# Altium schematic symbol library Schlib1.SchLib: 42 symbols (part 1 of 2)
Pins are listed as number, name and electrical type; pins without a type are passive.

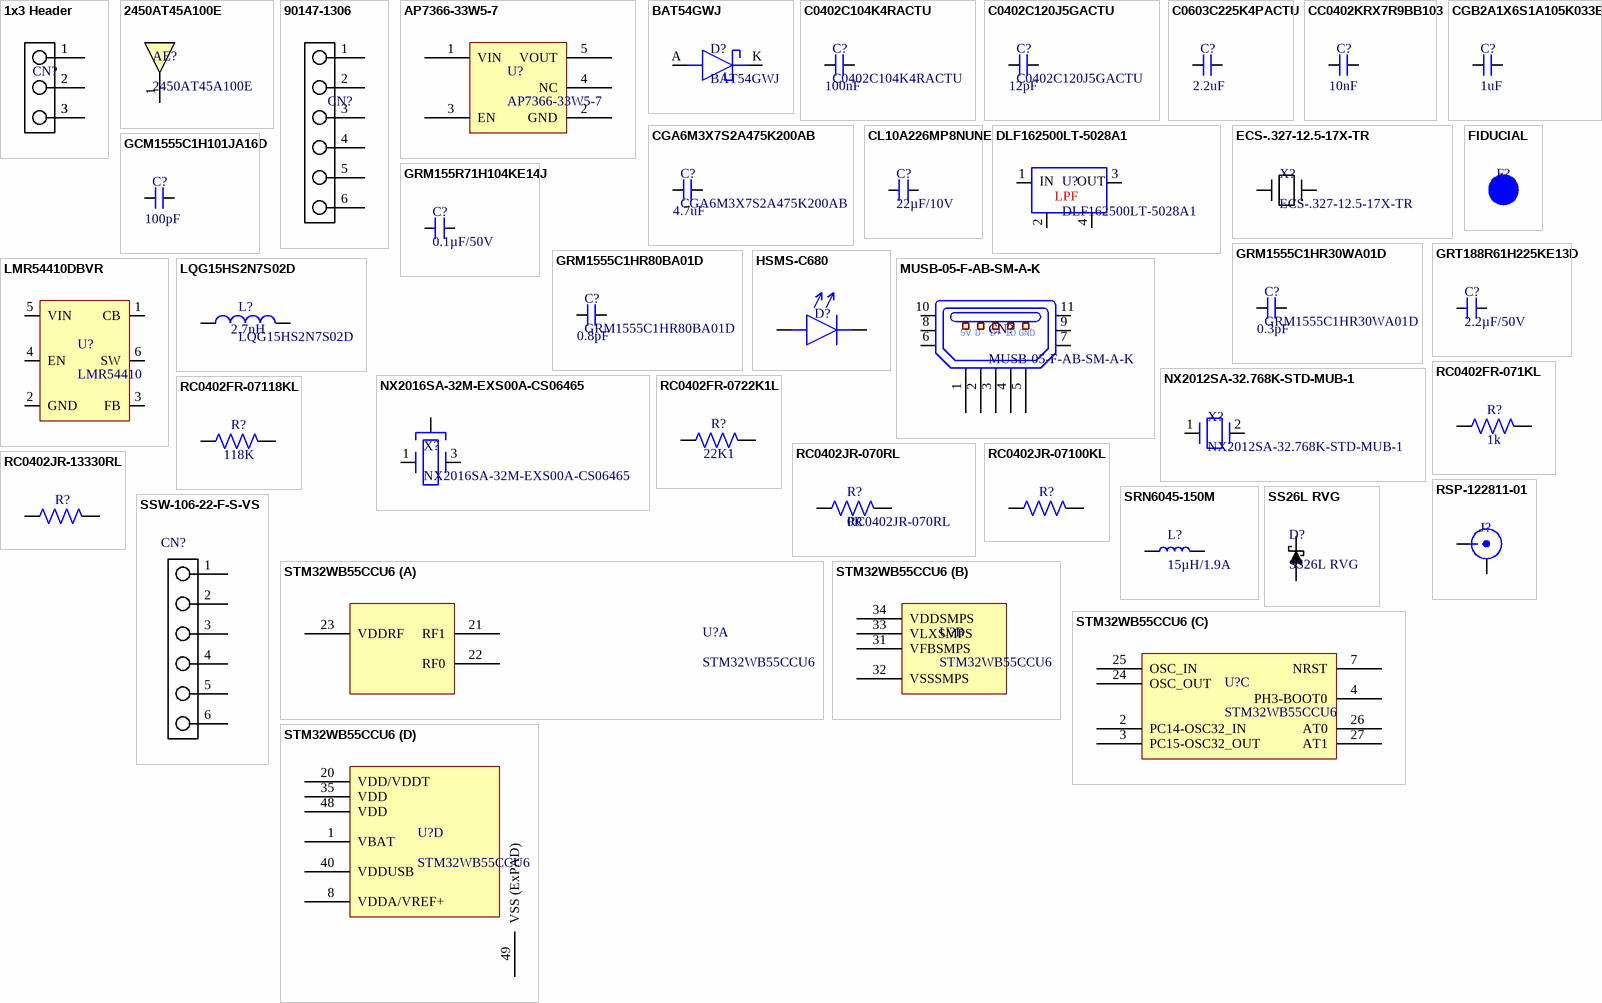
[diagram p0: symbols 1x3 Header to STM32WB55CCU6]

## 1x3 Header
designator CN?  (value not drawn)  (no BOM)
footprint 1x3Header
pins: 1, 1, 2, 2, 3, 3

## 2450AT45A100E
designator AE?
Antenna Ceramic 2.2dBi Gain 2500MHz 2-Pin T/R / ANTENNA CHIP 2.4GHZ; Manufacturer: Johanson; Impedance: 50R; Power Rating: 3W; Bandwidth: 100MHz; Number of Bands: 1; Return Loss: -9.5dB; Frequency: 2.45GHz; Gain: 1dB; Clock Frequency: 2.5GHz; Supplier: Newark; Supplier Part Number: 41T1678; Manufacturer Part Number: 2450AT45A100E; RoHS: Yes; Category: RF Antennas; Stock: 8; Pricing: 1=0,728, 10=0,62, 25=0,572, 50=0,523, 100=0,475 (USD); Mounting Technology: Surface Mount; Pins: 2; Min Operating Temperature: -40°C; Max Operating Temperature: 85°C; Package Quantity: 1000; Packaging: Tape and Reel; Max Power Dissipation: 3W; Termination: Solder; Series: -; Min Frequency: 2.4GHz; Input Impedance: 50R; Input Power: 3W; Length: 9.5mm; Width: 2mm; Height: 1.2mm; Radiation Hardening: No; Reach SVHC Compliant: No; RoHS Compliant: Yes; ComponentLink1URL: https://datasheet.ciiva.com/2791/jti-antenna-2450at45a100-2006-07-2791936.pdf?src-supplier=Digikey; ComponentLink1Description: https://datasheet.ciiva.com/2791/jti-antenna-2450at45a100-2006-07-2791936.pdf?src-supplier=Digikey; ComponentLink2URL: https://datasheet.ciiva.com/24068/antenna-2450at45a100-v5-242465-24068002.pdf?src-supplier=Mouser; ComponentLink2Description: https://datasheet.ciiva.com/24068/antenna-2450at45a100-v5-242465-24068002.pdf?src-supplier=Mouser; ComponentLink3URL: https://datasheet.ciiva.com/1126/1296113-1126176.pdf?src-supplier=Newark; ComponentLink3Description: https://datasheet.ciiva.com/1126/1296113-1126176.pdf?src-supplier=Newark; ComponentLink4URL: https://datasheet.ciiva.com/6748/antenna-2450at45a100-v5-6748578.pdf?src-supplier=Newark; ComponentLink4Description: https://datasheet.ciiva.com/6748/antenna-2450at45a100-v5-6748578.pdf?src-supplier=Newark; ComponentLink5URL: https://datasheet.ciiva.com/2791/jti-antenna-2450at45a100-2006-07-2791937.pdf?src-supplier=Digikey; ComponentLink5Description: https://datasheet.ciiva.com/2791/jti-antenna-2450at45a100-2006-07-2791937.pdf?src-supplier=Digikey; ComponentLink6URL: https://datasheet.ciiva.com/2791/jti-antenna-2450at45a100-2006-07-2791938.pdf?src-supplier=Digikey; ComponentLink6Description: https://datasheet.ciiva.com/2791/jti-antenna-2450at45a100-2006-07-2791938.pdf?src-supplier=Digikey; ComponentLink7URL: https://datasheet.ciiva.com/1124/1318299-1124920.pdf?src-supplier=Element14; ComponentLink7Description: https://datasheet.ciiva.com/1124/1318299-1124920.pdf?src-supplier=Element14
footprint 2450AT45A100E
pins: 1 Feeding Point

## 90147-1306
designator CN?  (value not drawn)
Header Connector, pcb Mount, plug, 6 Contacts, skt, 0.1 Pitch, pc Tail Terminal |Molex 90147-1306; Manufacturer: Molex; Plating: Tin; Current Rating: 3A; Voltage Rating: 350V; Number of Positions: 6; Number of Circuits: 5; Connector Type: Receptacle; Pitch: 2.54mm; Supplier: Digikey; Supplier Part Number: 0901471306-ND; Manufacturer Part Number: 90147-1306; RoHS: Yes; Category: Headers and Wire Housings; Pricing: 2880=1,37004 (USD); Contact Material: Bronze; Contact Plating: Gold; Housing Material: Polyester; Color: Black; Housing Color: Black; Min Operating Temperature: -55°C; Max Operating Temperature: 125°C; Packaging: Rail/Tube; Series: 90147; Package Quantity: 2880; Number of Rows: 1; Termination: Through Hole; Orientation: Vertical; Number of Contacts: 6; Length: 15.24mm; Depth: 2.54mm; RoHS Compliant: Yes; Reach SVHC Compliant: 4188SVHC; ComponentLink1URL: https://datasheet.ciiva.com/13558/0901471306-pcb-receptacles-176889-13558073.pdf?src-supplier=Mouser; ComponentLink1Description: https://datasheet.ciiva.com/13558/0901471306-pcb-receptacles-176889-13558073.pdf?src-supplier=Mouser; ComponentLink2URL: https://datasheet.ciiva.com/10085/0901471306-pcb-receptacles-10085019.pdf?src-supplier=Avnet; ComponentLink2Description: https://datasheet.ciiva.com/10085/0901471306-pcb-receptacles-10085019.pdf?src-supplier=Avnet
footprint 1x6Header
pins: 1, 2, 3, 4, 5, 6

## AP7366-33W5-7
designator U?
Ldo, Fixed, 3.3V, 0.6A, -40 To 85Deg C Rohs Compliant: Yes |Diodes Inc. AP7366-33W5-7; Manufacturer: Diodes; Number of Channels: 1NUMBER; Supplier: Future Electronics; Supplier Part Number: 8130059; Manufacturer Part Number: AP7366-33W5-7; RoHS: Yes; Stock: 9000; Pricing: 3000=0,0633, 9000=0,0609, 15000=0,0598, 30000=0,0584, 60000=0,0561 (USD); Output Voltage: 3.3V; ComponentLink1URL: https://datasheet.octopart.com/AP7366-33W5-7-Diodes-Inc.-datasheet-147761854.pdf?src-supplier=Farnell; ComponentLink1Description: https://datasheet.octopart.com/AP7366-33W5-7-Diodes-Inc.-datasheet-147761854.pdf?src-supplier=Farnell; ComponentLink2URL: https://www.diodes.com/assets/Datasheets/AP7366.pdf?src-supplier=Digikey; ComponentLink2Description: https://www.diodes.com/assets/Datasheets/AP7366.pdf?src-supplier=Digikey
footprint SOT25
pins: 1 VIN, 2 GND, 3 EN, 4 NC, 5 VOUT

## BAT54GWJ
designator D?
Schottky Diode, Sngl, 30V, 0.2A, Sod-123 Rohs Compliant: Yes |Nexperia BAT54GWJ; Supplier: Mouser; Supplier Part Number: 841-BAT54GWJ; Manufacturer: Nexperia; Manufacturer Part Number: BAT54GWJ; RoHS: Yes; Category: Schottky Diodes; Stock: 282728; Pricing: 1=0,1, 10=0,069, 50=0,069, 100=0,036, 1000=0,029, 10000=0,022 (USD); RoHS Compliant: Yes; ComponentLink1URL: https://datasheet.octopart.com/BAT54GWJ-Nexperia-datasheet-82522515.pdf?src-supplier=Future+Electronics; ComponentLink1Description: https://datasheet.octopart.com/BAT54GWJ-Nexperia-datasheet-82522515.pdf?src-supplier=Future+Electronics
footprint SOD123
pins: A 2, K 1

## C0402C104K4RACTU
designator C?  value 100nF
Multilayer Ceramic Capacitor, 0.1 uF, 16 V, ï¿½ 10%, X7R, 0402 [1005 Metric]; Manufacturer: KEMET; Voltage Rating: 16V; Supplier: Mouser; Supplier Part Number: 80-C0402C104K4R; Manufacturer Part Number: C0402C104K4RACTU; RoHS: Yes; Category: Ceramic Capacitors; Stock: 1723997; Pricing: 1=0,1, 10=0,012, 50=0,012, 100=0,009, 1000=0,008, 10000=0,006 (USD); Mounting Technology: Surface Mount; Case/Package: 0402; Pins: 2; Dielectric Material: Ceramic; Case Code (Imperial): 0402; Case Code (Metric): 1005; Material: Ceramic; Min Operating Temperature: -55°C; Max Operating Temperature: 125°C; Tolerance: 10%; Packaging: Tape and Reel; Dielectric: X7R; Series: SMD Comm X7R; Voltage: 16V; Voltage Rating (AC): 16V; Length: 1mm; Depth: 0.5mm; Lead Pitch: 300um; Thickness: 558.8um; Radiation Hardening: No; Reach SVHC Compliant: No; RoHS Compliant: Yes; Lead Free: Lead Free; ComponentLink1URL: https://datasheet.ciiva.com/45846/docfinderpartnumberc0402c102k5ractu-45846919.pdf?src-supplier=Onlinecomponents.com; ComponentLink1Description: https://datasheet.ciiva.com/45846/docfinderpartnumberc0402c102k5ractu-45846919.pdf?src-supplier=Onlinecomponents.com; ComponentLink2URL: https://datasheet.ciiva.com/18192/getdatasheetpartid-385384-18192412.pdf?src-supplier=Verical; ComponentLink2Description: https://datasheet.ciiva.com/18192/getdatasheetpartid-385384-18192412.pdf?src-supplier=Verical
footprint C0402
pins: 1, 2

## C0402C120J5GACTU
designator C?  value 12pF
Multilayer Ceramic Capacitor, 12 pF, 50 V, ï¿½ 5%, C0G (NP0), 0402 [1005 Metric]; Manufacturer: KEMET; Voltage Rating: 50V; Temperature Coefficient: 30ppm/°C; Supplier: Mouser; Supplier Part Number: 80-C0402C120J5G; Manufacturer Part Number: C0402C120J5GACTU; RoHS: Yes; Category: Ceramic Capacitors; Stock: 110567; Pricing: 1=0,1, 10=0,021, 50=0,021, 100=0,011, 1000=0,007, 10000=0,005 (USD); Mounting Technology: Surface Mount,PCB; Case/Package: 0402; Pins: 2; Case Code (Metric): 1005; Case Code (Imperial): 0402; Material: Ceramic; Min Operating Temperature: -55°C; Max Operating Temperature: 125°C; Tolerance: 5%; Voltage Rating (DC): 50V; Packaging: Tape and Reel; Package Quantity: 1; Dielectric: C0G; Termination: SMD/SMT; Series: C; Construction: Flat; Voltage Rating (AC): 50V; Length: 1mm; Width: 0.02inch; Height: 0.5mm; Thickness: 0.022inch; Lead Pitch: 0.3mm; Depth: 0.5mm; Radiation Hardening: No; Reach SVHC Compliant: No; Lead Free: Lead Free; RoHS Compliant: Yes; ComponentLink1URL: https://datasheet.ciiva.com/7392/1372242-7392447.pdf?src-supplier=Newark; ComponentLink1Description: https://datasheet.ciiva.com/7392/1372242-7392447.pdf?src-supplier=Newark; ComponentLink2URL: https://datasheet.ciiva.com/7747/kem-c1003-c0g-smd-7747451.pdf?src-supplier=Element14; ComponentLink2Description: https://datasheet.ciiva.com/7747/kem-c1003-c0g-smd-7747451.pdf?src-supplier=Element14; ComponentLink3URL: https://datasheet.ciiva.com/14600/70095383-14600717.pdf?src-supplier=Allied+Electronics; ComponentLink3Description: https://datasheet.ciiva.com/14600/70095383-14600717.pdf?src-supplier=Allied+Electronics
footprint C0402
pins: 1, 2

## C0603C225K4PACTU
designator C?  value 2.2uF  (hidden comment: C0603C225K4PACTU)
Ceramic Capacitor, Multilayer, Ceramic, 16V, 10% +Tol, 10% -Tol, X5R, 15% TC, 2.2uF, Surface Mount, 0603; Manufacturer: KEMET; Dissipation Factor: 5%; Supplier: Mouser; Supplier Part Number: 80-C0603C225K4P; Manufacturer Part Number: C0603C225K4PACTU; RoHS: Yes; Category: Ceramic Capacitors; Stock: 124238; Pricing: 1=0,12, 10=0,059, 50=0,059, 100=0,039, 1000=0,027, 10000=0,017 (USD); Mounting Technology: Surface Mount; Case/Package: 0603; Pins: 2; Case Code (Imperial): 0603; Case Code (Metric): 1608; Dielectric Material: Ceramic; Material: Ceramic; Min Operating Temperature: -55°C; Max Operating Temperature: 85°C; Tolerance: 10%; Voltage Rating: 16V; Voltage Rating (DC): 16V; Packaging: Tape and Reel; Package Quantity: 1; Dielectric: X5R; Termination: SMD/SMT; Voltage: 16V; Series: C; Construction: Flat; Length: 1.6mm; Width: 0.031inch; Height: 0.8mm; Thickness: 0.034inch; Depth: 0.8mm; Radiation Hardening: No; Reach SVHC Compliant: No; RoHS Compliant: Yes; Lead Free: 5697LeadFree; ComponentLink1URL: https://datasheet.ciiva.com/5969/1776083-5969304.pdf?src-supplier=Farnell; ComponentLink1Description: https://datasheet.ciiva.com/5969/1776083-5969304.pdf?src-supplier=Farnell; ComponentLink2URL: https://datasheet.ciiva.com/7823/1776083-7823706.pdf?src-supplier=Element14; ComponentLink2Description: https://datasheet.ciiva.com/7823/1776083-7823706.pdf?src-supplier=Element14
footprint C0603
pins: 1, 2

## CC0402KRX7R9BB103
designator C?  value 10nF  (hidden comment: CC0402KRX7R9BB103)
Multilayer Ceramic Capacitor, 0.01 uF, 50 V, ï¿½ 10%, X7R, 0402 [1005 Metric]; Manufacturer: Yageo; Voltage Rating: 50V; Temperature Coefficient: 30ppm/°C; Supplier: Future Electronics; Supplier Part Number: 8570871; Manufacturer Part Number: CC0402KRX7R9BB103; RoHS: Yes; Category: Ceramic Capacitors; Stock: 21800000; Pricing: 10000=0,0016, 40000=0,0015, 150000=0,0015, 300000=0,0014, 750000=0,0014 (USD); Mounting Technology: Surface Mount; Case/Package: 0402; Case Code (Imperial): 0402; Case Code (Metric): 1005; Material: Ceramic; Min Operating Temperature: -55°C; Max Operating Temperature: 125°C; Tolerance: 10%; Packaging: Tape and Reel; Voltage Rating (DC): 50V; Package Quantity: 1; Dielectric: X7R; Termination: SMD/SMT; Voltage: 50V; Series: CC; Length: 1mm; Width: 0.02inch; Height: 0.5mm; Thickness: 0.022inch; Depth: 0.5mm; Radiation Hardening: No; Reach SVHC Compliant: No; Lead Free: Lead Free; RoHS Compliant: Yes; Halogen Free: 5694HalogenFree; ComponentLink1URL: https://datasheet.ciiva.com/11788/0900766b8079c870-11788375.pdf?src-supplier=Rs; ComponentLink1Description: https://datasheet.ciiva.com/11788/0900766b8079c870-11788375.pdf?src-supplier=Rs; ComponentLink2URL: https://datasheet.ciiva.com/26862/getdatasheetpartid-138248-26862642.pdf?src-supplier=Verical; ComponentLink2Description: https://datasheet.ciiva.com/26862/getdatasheetpartid-138248-26862642.pdf?src-supplier=Verical; ComponentLink3URL: https://datasheet.ciiva.com/176/mlccorderingcode-176349.pdf?src-supplier=Digikey; ComponentLink3Description: https://datasheet.ciiva.com/176/mlccorderingcode-176349.pdf?src-supplier=Digikey; ComponentLink4URL: https://datasheet.ciiva.com/176/mlccorderingcode-176350.pdf?src-supplier=Digikey; ComponentLink4Description: https://datasheet.ciiva.com/176/mlccorderingcode-176350.pdf?src-supplier=Digikey; ComponentLink5URL: https://datasheet.ciiva.com/176/mlccorderingcode-176348.pdf?src-supplier=Digikey; ComponentLink5Description: https://datasheet.ciiva.com/176/mlccorderingcode-176348.pdf?src-supplier=Digikey; ComponentLink6URL: https://datasheet.ciiva.com/7978/1489800-7978093.pdf?src-supplier=Element14; ComponentLink6Description: https://datasheet.ciiva.com/7978/1489800-7978093.pdf?src-supplier=Element14; ComponentLink7URL: https://datasheet.ciiva.com/28450/1489800-28450377.pdf?src-supplier=Element14; ComponentLink7Description: https://datasheet.ciiva.com/28450/1489800-28450377.pdf?src-supplier=Element14
footprint C0402
pins: 1, 2

## CGA6M3X7S2A475K200AB
designator C?  value 4.7uF
Multilayer Ceramic Capacitor, 4.7 uF, 100 V, ï¿½ 10%, X7S, 1210 [3225 Metric]; Manufacturer: TDK; Material: 4241ConductorMaterial; Voltage Rating: 100V; Supplier: Digikey; Supplier Part Number: 445-7005-1-ND; Manufacturer Part Number: CGA6M3X7S2A475K200AB; RoHS: Yes; Category: Ceramic Capacitors; Stock: 44060; Pricing: 1=1,49, 10=0,94, 100=0,6472 (USD); Mounting Technology: Surface Mount; Case/Package: 1210; Case Code (Metric): 3225; Case Code (Imperial): 1210; Weight: 0.000564oz; Min Operating Temperature: -55°C; Max Operating Temperature: 125°C; Package Quantity: 1; Tolerance: 10%; Packaging: Tape and Reel; Voltage Rating (DC): 100V; Dielectric: X7S; Termination: SMD/SMT; Series: CGA; Length: 3.2mm; Width: 0.098inch; Height: 2mm; Thickness: 0.087inch; Depth: 2.5mm; Ratings: AEC-Q200; Radiation Hardening: No; Reach SVHC Compliant: No; Lead Free: Lead Free; RoHS Compliant: Yes; ComponentLink1URL: https://datasheet.ciiva.com/24216/cga6m3x7s2a475k200ab-266278-24216372.pdf?src-supplier=Mouser; ComponentLink1Description: https://datasheet.ciiva.com/24216/cga6m3x7s2a475k200ab-266278-24216372.pdf?src-supplier=Mouser; ComponentLink2URL: https://datasheet.ciiva.com/26834/getdatasheetpartid-745136-26834554.pdf?src-supplier=Verical; ComponentLink2Description: https://datasheet.ciiva.com/26834/getdatasheetpartid-745136-26834554.pdf?src-supplier=Verical; ComponentLink3URL: https://datasheet.ciiva.com/8079/1807242-8079367.pdf?src-supplier=Element14; ComponentLink3Description: https://datasheet.ciiva.com/8079/1807242-8079367.pdf?src-supplier=Element14; ComponentLink4URL: https://datasheet.ciiva.com/22725/1735406-22725662.pdf?src-supplier=Element14; ComponentLink4Description: https://datasheet.ciiva.com/22725/1735406-22725662.pdf?src-supplier=Element14; ComponentLink5URL: https://datasheet.ciiva.com/28620/1735406-28620711.pdf?src-supplier=Element14; ComponentLink5Description: https://datasheet.ciiva.com/28620/1735406-28620711.pdf?src-supplier=Element14
footprint C1210
pins: 1, 2

## CGB2A1X6S1A105K033BC
designator C?  value 1uF  (hidden comment: CGB2A1X6S1A105K033BC)
Multilayer Ceramic Capacitor, 1 uF, 10 V, ± 10%, X6S, 0402 [1005 Metric]; Manufacturer: TDK; Voltage Rating: 10V; Supplier: Mouser; Supplier Part Number: 810-CGB2A1X6S1A105KC; Manufacturer Part Number: CGB2A1X6S1A105K033BC; RoHS: Yes; Category: Ceramic Capacitors; Stock: 11330; Pricing: 1=0,16, 10=0,094, 50=0,094, 100=0,057, 1000=0,041, 10000=0,028 (USD); Mounting Technology: Surface Mount; Case/Package: 0402; Case Code (Metric): 1005; Case Code (Imperial): 0402; Material: Ceramic; Min Operating Temperature: -55°C; Max Operating Temperature: 105°C; Packaging: Cut Tape; Tolerance: 10%; Series: CGB; Height: 330um; Lead Free: Lead Free; RoHS Compliant: Yes; ComponentLink1URL: https://product.tdk.com/info/en/catalog/spec/mlccspec_commercial_lowprofile_en.pdf?src-supplier=Digikey; ComponentLink1Description: https://product.tdk.com/info/en/catalog/spec/mlccspec_commercial_lowprofile_en.pdf?src-supplier=Digikey; ComponentLink2URL: http://product.tdk.com/en/catalog/datasheets/mlcc_commercial_lowprofile_en.pdf?src-supplier=Avnet; ComponentLink2Description: http://product.tdk.com/en/catalog/datasheets/mlcc_commercial_lowprofile_en.pdf?src-supplier=Avnet; ComponentLink3URL: https://datasheet.octopart.com/CGB2A1X6S1A105K033BC-TDK-datasheet-60278159.pdf?src-supplier=Future+Electronics; ComponentLink3Description: https://datasheet.octopart.com/CGB2A1X6S1A105K033BC-TDK-datasheet-60278159.pdf?src-supplier=Future+Electronics
footprint C0402
pins: 1, 2

## CL10A226MP8NUNE
designator C?, comment 22µF/10V
MLCC - 22µF 10V 0603 X5R ±20%; Manufacturer 1: Samsung; Manufacturer Part Number 1: CL10A226MP8NUNE; Dielectric Material: Ceramic; Value: 22uF; Multilayer: Yes; .SCHChecked: Alex Batista; .Mounting: SMT; Supplier 1: Digikey; RoHS: Yes; Category: Ceramic Capacitors; Stock 1: 4041118; Pricing 1: 1=0,13, 10=0,074, 100=0,0471, 1000=0,03264 (USD); Mounting Technology: Surface Mount; Pins: 2; Package Shape: Rectangular; Case/Package: 0603; Terminal Finish: Nickel; Min Operating Temperature: -55°C; Max Operating Temperature: 85°C; JESD-609 Code: e3; Capacitor Type: Ceramic; Tolerance  (fill in as +-): 20%; Package Style: SMTMeter; Packaging: Tape and Reel; Tolerance (fill in as +-): 20%; Rated DC Voltage (URdc): 10V; Temperature Characteristics Code: X5R; Termination: Wraparound; Length: 1.6mm; Width: 0.8mm; Height: 1.05mm; Reach SVHC Compliant: Yes; RoHS Compliant: Yes; ComponentLink1URL: https://datasheet.ciiva.com:443/pdfs/VipMasterIC/IC/SEMS/SEMS-S-A0008525088/SEMS-S-A0008525102-1.pdf?src-supplier=IHS+Markit; ComponentLink1Description: https://datasheet.ciiva.com:443/pdfs/VipMasterIC/IC/SEMS/SEMS-S-A0008525088/SEMS-S-A0008525102-1.pdf?src-supplier=IHS+Markit; ComponentLink2URL: https://datasheet.ciiva.com/25711/cl10a226mp8nune-25711532.pdf?src-supplier=Digikey; ComponentLink2Description: https://datasheet.ciiva.com/25711/cl10a226mp8nune-25711532.pdf?src-supplier=Digikey; ComponentLink3URL: https://datasheet.ciiva.com/26838/getdatasheetpartid-746477-26838370.pdf?src-supplier=Verical; ComponentLink3Description: https://datasheet.ciiva.com/26838/getdatasheetpartid-746477-26838370.pdf?src-supplier=Verical; Supplier Part Number 1: 1276-1274-1-ND; .PCBChecked: Alex Batista; Manufacturer: Samsung; Manufacturer Part Number: CL10A226MP8NUNE
footprint C0603
pins: 1, 2

## DLF162500LT-5028A1
designator U?
FILTER, LOW PASS, 2.4GHz to 2.5GHz; Filter Type: Low Pass; Pass Band Frequency: 2.; Manufacturer: TDK; Frequency: 2.45GHz; Insertion Loss: 0.33dB; Supplier: Digikey; Supplier Part Number: 445-15658-1-ND; Manufacturer Part Number: DLF162500LT-5028A1; RoHS: Yes; Stock: 8661; Pricing: 1=0,48, 10=0,39, 25=0,3596, 50=0,3382, 100=0,318, 250=0,29324, 500=0,2758, 1000=0,25939 (USD); Mounting Technology: Surface Mount; Case/Package: 0603; Pins: 4; Case Code (Metric): 1608; Case Code (Imperial): 0603; Min Operating Temperature: -40°C; Max Operating Temperature: 85°C; Packaging: Tape and Reel; Package Quantity: 4000; Termination: SMD/SMT; Series: DLF; Radiation Hardening: No; RoHS Compliant: Yes; ComponentLink1URL: https://datasheet.ciiva.com/24123/dlf162500lt-5028a1-279920-24123794.pdf?src-supplier=Mouser; ComponentLink1Description: https://datasheet.ciiva.com/24123/dlf162500lt-5028a1-279920-24123794.pdf?src-supplier=Mouser; ComponentLink2URL: https://datasheet.ciiva.com/23909/1751212-23909058.pdf?src-supplier=Newark; ComponentLink2Description: https://datasheet.ciiva.com/23909/1751212-23909058.pdf?src-supplier=Newark; ComponentLink3URL: https://datasheet.ciiva.com/30018/rf-lpf-dlf162500lt-5028a1-en-30018074.pdf?src-supplier=Avnet; ComponentLink3Description: https://datasheet.ciiva.com/30018/rf-lpf-dlf162500lt-5028a1-en-30018074.pdf?src-supplier=Avnet
footprint 4PIN_LPF
pins: 1, 2, 3, 4
text: IN; OUT; LPF

## ECS-.327-12.5-17X-TR
designator X?
Crystal 0.032768MHz ±20ppm (Tol) 12.5pF FUND 50000Ohm 4-Pin SMD T/R; Manufacturer: ECS International; Frequency: 32.768kHz; ESR (Equivalent Series Resistance): 50kR; Supplier: Digikey; Supplier Part Number: XC1195CT-ND; Manufacturer Part Number: ECS-.327-12.5-17X-TR; RoHS: Yes; Category: Crystals; Stock: 164259; Pricing: 1=0,61, 10=0,53, 50=0,4808, 100=0,461, 500=0,41788, 1000=0,40059 (USD); Mounting Technology: Surface Mount; Min Operating Temperature: -40°C; Max Operating Temperature: 85°C; Package Quantity: 3000; Frequency Tolerance: 20ppm; Load Capacitance: 12.5pF; Packaging: Tape and Reel; Tolerance: 20ppm; Termination: SMD/SMT; Series: ECX-306X; Length: 8mm; Width: 3.8mm; Height: 2.5mm; Lead Free: Lead Free; RoHS Compliant: Yes; ComponentLink1URL: https://datasheet.ciiva.com/852/ecx-306x-852775.pdf?src-supplier=Digikey; ComponentLink1Description: https://datasheet.ciiva.com/852/ecx-306x-852775.pdf?src-supplier=Digikey; ComponentLink2URL: https://datasheet.ciiva.com/852/ecx-306x-852776.pdf?src-supplier=Digikey; ComponentLink2Description: https://datasheet.ciiva.com/852/ecx-306x-852776.pdf?src-supplier=Digikey; ComponentLink3URL: https://datasheet.ciiva.com/852/ecx-306x-852777.pdf?src-supplier=Digikey; ComponentLink3Description: https://datasheet.ciiva.com/852/ecx-306x-852777.pdf?src-supplier=Digikey
footprint CRI_306
pins: 1, 4

## FIDUCIAL
designator F?  (value not drawn)  (no BOM)
footprint FID_40x120
pins: 1

## GCM1555C1H101JA16D
designator C?  value 100pF  (hidden comment: GCM1555C1H101JA16D)
Multilayer Ceramic Capacitor, 100 pF, 50 V, ï¿½ 5%, C0G (NP0), 0402 [1005 Metric]; Manufacturer: Murata; Voltage Rating: 50V; Temperature Coefficient: 30ppm/°C; Supplier: Mouser; Supplier Part Number: 81-GCM1555C1H101JA6D; Manufacturer Part Number: GCM1555C1H101JA16D; RoHS: Yes; Category: Ceramic Capacitors; Stock: 954968; Pricing: 1=0,1, 10=0,03, 50=0,03, 100=0,016, 1000=0,01, 10000=0,005 (USD); Mounting Technology: Surface Mount; Case/Package: 0402; Case Code (Metric): 1005; Case Code (Imperial): 0402; Weight: 0.000212oz; Material: Ceramic; Min Operating Temperature: -55°C; Max Operating Temperature: 125°C; Tolerance: 5%; Packaging: Tape and Reel; Dielectric: C0G; Voltage: 50V; Termination: SMD/SMT; Voltage Rating (DC): 50V; Package Quantity: 10000; Series: GCM; Length: 1mm; Width: 0.02inch; Height: 0.5mm; Thickness: 0.022inch; Depth: 0.5mm; Ratings: AEC-Q200; Radiation Hardening: No; Reach SVHC Compliant: No; Lead Free: Lead Free; RoHS Compliant: Yes; ComponentLink1URL: https://datasheet.ciiva.com/26889/getdatasheetpartid-748988-26889122.pdf?src-supplier=Verical; ComponentLink1Description: https://datasheet.ciiva.com/26889/getdatasheetpartid-748988-26889122.pdf?src-supplier=Verical
footprint C0402
pins: 1, 2

## GRM155R71H104KE14J
designator C?, comment 0.1µF/50V
MLCC - 0.1µF 50V  0402 X7R ±10%; Manufacturer 1: Murata; Manufacturer Part Number 1: GRM155R71H104KE14J; Capacitance: 100nF; .PCBChecked: Alex Batista; Supplier 1: Digi-Key; Stock 1: 715500; Pricing 1: 1=0.10000, 10=0.03300, 50=0.01780, 100=0.01460, 500=0.01040, 1000=0.00817, 2500=0.00742, 5000=0.00683 (USD); RoHS: Yes; Mount: Surface Mount; Case/Package: 0402; Case Code (Imperial): 0402; Weight: 0.000212oz; Case Code (Metric): 1005; Min Operating Temperature: -55°C; Max Operating Temperature: 125°C; Tolerance: 10%; Dielectric: X7R; Termination: SMD/SMT; Resistor Type: Ceramic; Voltage Rating (DC): 50V; Package Quantity: 50000; Packaging: Tape and Reel; Voltage Rating: 50V; Length: 0.039inch; Width: 0.5mm; Height: 0.5mm; Thickness: 0.022inch; Lead Free: Lead Free; ComponentLink1URL: http://search.murata.co.jp/Ceramy/image/img/A01X/G101/ENG/GRM155R71H104KE14-01.pdf?src-supplier=Mouser; ComponentLink1Description: http://search.murata.co.jp/Ceramy/image/img/A01X/G101/ENG/GRM155R71H104KE14-01.pdf?src-supplier=Mouser; ComponentLink2URL: http://search.murata.co.jp/Ceramy/image/img/A01X/G101/ENG/GRM155R71H104KE14-01.pdf?src-supplier=Avnet; ComponentLink2Description: http://search.murata.co.jp/Ceramy/image/img/A01X/G101/ENG/GRM155R71H104KE14-01.pdf?src-supplier=Avnet; ComponentLink3URL: http://search.murata.co.jp/Ceramy/image/img/A01X/G101/ENG/GRM155R71H104KE14-01.pdf?src-supplier=Digi-Key; ComponentLink3Description: http://search.murata.co.jp/Ceramy/image/img/A01X/G101/ENG/GRM155R71H104KE14-01.pdf?src-supplier=Digi-Key; ComponentLink4URL: http://search.murata.co.jp/Ceramy/image/img/A01X/G101/ENG/GRM155R71H104KE14-01.pdf?src-supplier=Avnet+Europe; ComponentLink4Description: http://search.murata.co.jp/Ceramy/image/img/A01X/G101/ENG/GRM155R71H104KE14-01.pdf?src-supplier=Avnet+Europe; Supplier Part Number 1: 490-13342-1-ND; .SCHChecked: Alex Batista; Manufacturer: Murata; Manufacturer Part Number: GRM155R71H104KE14J
footprint C0402
pins: 1, 2

## GRM1555C1HR30WA01D
designator C?  value 0.3pF
Cap Ceramic 0.3pF 50V C0G 0.05pF Pad SMD 0402 125°C T/R; Manufacturer: Murata; Supplier: Mouser; Supplier Part Number: 81-GRM1555C1HR30WA1D; Manufacturer Part Number: GRM1555C1HR30WA01D; RoHS: Yes; Category: Ceramic Capacitors; Stock: 16063; Pricing: 1=0,17, 10=0,069, 50=0,069, 100=0,042, 1000=0,037, 10000=0,026 (USD); Mounting Technology: Surface Mount; Case/Package: 0402; Case Code (Metric): 1005; Case Code (Imperial): 0402; Material: Ceramic; Min Operating Temperature: -55°C; Max Operating Temperature: 125°C; Package Quantity: 1; Voltage Rating: 50V; Packaging: Tape and Reel; Voltage Rating (DC): 50V; Dielectric: C0G; Termination: SMD/SMT; Voltage: 50V; Series: GRM; Construction: Flat; Length: 1mm; Width: 0.5mm; Height: 0.5mm; Thickness: 0.022inch; Depth: 0.5mm; Radiation Hardening: No; Lead Free: Lead Free; RoHS Compliant: Yes; ComponentLink1URL: https://datasheet.ciiva.com/6264/grm1555c1hr30ba01-01-6264100.pdf?src-supplier=Digikey; ComponentLink1Description: https://datasheet.ciiva.com/6264/grm1555c1hr30ba01-01-6264100.pdf?src-supplier=Digikey; ComponentLink2URL: https://datasheet.ciiva.com/11617/product-11617602.pdf?src-supplier=Avnet; ComponentLink2Description: https://datasheet.ciiva.com/11617/product-11617602.pdf?src-supplier=Avnet; ComponentLink3URL: https://datasheet.ciiva.com/6264/partnumbering-e-01-6264101.pdf?src-supplier=Digikey; ComponentLink3Description: https://datasheet.ciiva.com/6264/partnumbering-e-01-6264101.pdf?src-supplier=Digikey; ComponentLink4URL: https://datasheet.ciiva.com/6264/partnumbering-e-01-6264102.pdf?src-supplier=Digikey; ComponentLink4Description: https://datasheet.ciiva.com/6264/partnumbering-e-01-6264102.pdf?src-supplier=Digikey
footprint C0402
pins: 1, 2

## GRM1555C1HR80BA01D
designator C?  value 0.8pF
Multilayer Ceramic Capacitor, 0.8 pF, 50 V, ï¿½ 0.1pF, C0G (NP0), 0402 [1005 Metric]; Manufacturer: Murata; Voltage Rating: 50V; Supplier: Mouser; Supplier Part Number: 81-GRM1555C1HR80BA1D; Manufacturer Part Number: GRM1555C1HR80BA01D; RoHS: Yes; Category: Ceramic Capacitors; Stock: 6504; Pricing: 1=0,1, 10=0,042, 50=0,042, 100=0,026, 1000=0,02, 2500=0,017, 10000=0,011, 50000=0,01 (USD); Mounting Technology: Surface Mount; Case/Package: 0402; Case Code (Metric): 1005; Case Code (Imperial): 0402; Material: Ceramic; Min Operating Temperature: -55°C; Max Operating Temperature: 125°C; Package Quantity: 1; Packaging: Tape and Reel; Voltage Rating (DC): 50V; Dielectric: C0G; Termination: SMD/SMT; Voltage: 50V; Series: GRM; Construction: Flat; Length: 1mm; Width: 0.5mm; Height: 0.5mm; Thickness: 0.022inch; Depth: 0.5mm; Radiation Hardening: No; Lead Free: Lead Free; RoHS Compliant: Yes; ComponentLink1URL: https://datasheet.ciiva.com/6263/grm1555c1hr75ba01-01-6263972.pdf?src-supplier=Digikey; ComponentLink1Description: https://datasheet.ciiva.com/6263/grm1555c1hr75ba01-01-6263972.pdf?src-supplier=Digikey; ComponentLink2URL: https://datasheet.ciiva.com/6263/partnumbering-e-01-6263975.pdf?src-supplier=Digikey; ComponentLink2Description: https://datasheet.ciiva.com/6263/partnumbering-e-01-6263975.pdf?src-supplier=Digikey; ComponentLink3URL: https://datasheet.ciiva.com/6263/partnumbering-e-01-6263977.pdf?src-supplier=Digikey; ComponentLink3Description: https://datasheet.ciiva.com/6263/partnumbering-e-01-6263977.pdf?src-supplier=Digikey; ComponentLink4URL: https://datasheet.ciiva.com/11616/product-11616827.pdf?src-supplier=Avnet; ComponentLink4Description: https://datasheet.ciiva.com/11616/product-11616827.pdf?src-supplier=Avnet; ComponentLink5URL: https://datasheet.ciiva.com/5436/product-5436190.pdf?src-supplier=Mouser; ComponentLink5Description: https://datasheet.ciiva.com/5436/product-5436190.pdf?src-supplier=Mouser; ComponentLink6URL: https://datasheet.ciiva.com/16495/c02e-16495271.pdf?src-supplier=Future+Electronics; ComponentLink6Description: https://datasheet.ciiva.com/16495/c02e-16495271.pdf?src-supplier=Future+Electronics
footprint C0402
pins: 1, 2

## GRT188R61H225KE13D
designator C?, comment 2.2µF/50V
MLCC - 2.2µF 50V  0603 X5R ±10%; Manufacturer 1: Murata; Manufacturer Part Number 1: GRT188R61H225KE13D; Material: 4241ConductorMaterial; Value: 2.2uF; Dielectric: 1537DielectricType; .SCHChecked: Alex Batista; .Mounting: SMT; Supplier: Digikey; Supplier Part Number: 490-12332-1-ND; RoHS: Yes; Category: Ceramic Capacitors; Stock: 50026; Pricing: 1=0.19, 10=0.125, 50=0.0788, 100=0.063, 500=0.04552, 1000=0.04027 (USD); Mounting Technology: Surface Mount; Case/Package: 0603; Case Code (Metric): 1608; Case Code (Imperial): 0603; Min Operating Temperature: -55°C; Max Operating Temperature: 85°C; Packaging: Cut Tape; Voltage Rating: 50V; Tolerance: 10%; Series: GRT; Voltage Rating (DC): 50V; Length: 0.063inch; Width: 0.031inch; Height: 1mm; Thickness: 0.035inch; Ratings: AEC-Q200; RoHS Compliant: Yes; ComponentLink1URL: http://www.farnell.com/datasheets/2165960.pdf?src-supplier=Farnell; ComponentLink1Description: http://www.farnell.com/datasheets/2165960.pdf?src-supplier=Farnell; ComponentLink2URL: https://datasheet.octopart.com/GRT188R61H225KE13D-Murata-datasheet-149523597.pdf?src-supplier=Farnell; ComponentLink2Description: https://datasheet.octopart.com/GRT188R61H225KE13D-Murata-datasheet-149523597.pdf?src-supplier=Farnell; ComponentLink3URL: https://datasheet.octopart.com/GRT188R61H225KE13D-Murata-datasheet-67697752.pdf?src-supplier=Element14; ComponentLink3Description: https://datasheet.octopart.com/GRT188R61H225KE13D-Murata-datasheet-67697752.pdf?src-supplier=Element14; ComponentLink4URL: https://search.murata.co.jp/Ceramy/image/img/A01X/G101/ENG/GRT188R61H225KE13-01.pdf?src-supplier=Digikey; ComponentLink4Description: https://search.murata.co.jp/Ceramy/image/img/A01X/G101/ENG/GRT188R61H225KE13-01.pdf?src-supplier=Digikey; ComponentLink5URL: http://search.murata.co.jp/Ceramy/image/img/A01X/G101/ENG/GRT188R61H225KE13-01.pdf?src-supplier=Digikey; ComponentLink5Description: http://search.murata.co.jp/Ceramy/image/img/A01X/G101/ENG/GRT188R61H225KE13-01.pdf?src-supplier=Digikey; ComponentLink6URL: https://datasheet.octopart.com/GRT188R61H225KE13D-Murata-datasheet-165579666.pdf?src-supplier=TME; ComponentLink6Description: https://datasheet.octopart.com/GRT188R61H225KE13D-Murata-datasheet-165579666.pdf?src-supplier=TME; .PCBChecked: Alex Batista; Manufacturer: Murata; Manufacturer Part Number: GRT188R61H225KE13D
footprint C0603
pins: 1, 2

## HSMS-C680
designator D?  (value not drawn)
LED Uni-Color Red 636nm 2-Pin Chip LED T/R; Manufacturer: Broadcom Avago; Lens Color: Colorless; Viewing Angle: 125°; Lens Style: Diffused,Colorless,Rectangular; Luminous Intensity: 5.1mcd; Forward Current: 20mA; Forward Voltage: 2V; Power Rating: 65mW; Lens Transparency: Clear; Dominant Wavelength: 621nm; Number of Elements: 1; Reverse Voltage: 5V; Supplier: Digikey; Supplier Part Number: 516-HSMS-C680CT-ND; Manufacturer Part Number: HSMS-C680; RoHS: Yes; Category: LEDs; Stock: 32975; Pricing: 1=0,41, 10=0,278, 100=0,1982, 500=0,16192, 1000=0,14996 (USD); Mounting Technology: Surface Mount; Case/Package: SMD/SMT; Pins: 2; Color: Red; Min Operating Temperature: -40°C; Max Operating Temperature: 85°C; Package Quantity: 3000; Packaging: Tape and Reel; Illumination Color: Red; Test Current: 20mA; Power Dissipation: 65mW; Wavelength: 621nm; Number of LEDs: 1; Series: -; Length: 3mm; Width: 1mm; Height: 1mm; Depth: 1mm; Radiation Hardening: No; Lead Free: Lead Free; RoHS Compliant: Yes; ComponentLink1URL: http://components.arrow.com/part/dataview/42989512S8356275N7786?src-supplier=Arrow+Electronics; ComponentLink1Description: http://components.arrow.com/part/dataview/42989512S8356275N7786?src-supplier=Arrow+Electronics; ComponentLink2URL: https://docs.broadcom.com/docs/AV02-0481EN?src-supplier=Digikey; ComponentLink2Description: https://docs.broadcom.com/docs/AV02-0481EN?src-supplier=Digikey; ComponentLink3URL: http://www.avagotech.com/docs/AV02-0481EN?src-supplier=Avnet; ComponentLink3Description: http://www.avagotech.com/docs/AV02-0481EN?src-supplier=Avnet; ComponentLink4URL: http://www.avagotech.com/docs/AV02-0481EN?src-supplier=Mouser; ComponentLink4Description: http://www.avagotech.com/docs/AV02-0481EN?src-supplier=Mouser
footprint LED
pins: 1, 2

## LMR54410DBVR
designator U?, comment LMR54410
IC - DC/DC BUCK, Current-mode, 1A, 1100kHz SOT32-6; Manufacturer 1: Texas Instruments; Manufacturer Part Number 1: LMR54410DBVR; .SCHChecked: Alex Batista; .Mouting: SMT; Supplier: Digi-Key; Supplier Part Number: 296-LMR54410DBVRCT-ND; RoHS: No; Category: Voltage Regulators - Switching; Stock: 13950; Pricing: 1=1.07, 10=0.959, 25=0.9108, 100=0.748, 250=0.69924, 500=0.61792, 1000=0.48783 (USD); .PCBChecked: Alex Batista; Manufacturer: Texas Instruments; Manufacturer Part Number: LMR54410DBVR
footprint LMR54410
pins: 1 CB, 2 GND, 3 FB, 4 EN, 5 VIN, 6 SW

## LQG15HS2N7S02D
designator L?
Inductor RF Chip Multi-Layer 2.7nH 0.3nH 100MHz 8Q-Factor Air 300mA 150mOhm DCR 0402 T/R; Manufacturer: Murata; Q Factor: 8; Self Resonant Frequency: 6GHz; Shielding: Unshielded; DC Resistance (DCR): 150mR; RMS Current (Irms): 800mA; ESR: 120mR; Supplier: Mouser; Supplier Part Number: 81-LQG15HS2N7S02D; Manufacturer Part Number: LQG15HS2N7S02D; RoHS: Yes; Category: Fixed Inductors; Stock: 7929; Pricing: 1=0,1, 10=0,037, 50=0,037, 100=0,029, 1000=0,025, 10000=0,018 (USD); Mounting Technology: Surface Mount; Case/Package: 0402; Core Material: Air; Case Code (Metric): 1005; Case Code (Imperial): 0402; Min Operating Temperature: -55°C; Max Operating Temperature: 125°C; Packaging: Tape and Reel; Package Quantity: 1; Current Rating: 300mA; Termination: SMD/SMT; Series: LQG15HS; Value: 2.7nH; Max DC Current: 300mA; Test Frequency: 100MHz; DC Current: 300mA; Max Current Rating: 300mA; Length: 1mm; Width: 0.02inch; Height: 0.5mm; Depth: 0.55mm; Height - Seated (Max): 0.022inch; Radiation Hardening: No; RoHS Compliant: Yes; Military Standard: Not; Lead Free: Lead Free; ComponentLink1URL: https://datasheet.ciiva.com/11801/0900766b8090d685-11801391.pdf?src-supplier=Rs; ComponentLink1Description: https://datasheet.ciiva.com/11801/0900766b8090d685-11801391.pdf?src-supplier=Rs; ComponentLink2URL: https://datasheet.ciiva.com/1038/l0075s0083lqg15hs-1038151.pdf?src-supplier=Digikey; ComponentLink2Description: https://datasheet.ciiva.com/1038/l0075s0083lqg15hs-1038151.pdf?src-supplier=Digikey; ComponentLink3URL: https://datasheet.ciiva.com/1038/l0075s0083lqg15hs-1038152.pdf?src-supplier=Digikey; ComponentLink3Description: https://datasheet.ciiva.com/1038/l0075s0083lqg15hs-1038152.pdf?src-supplier=Digikey; ComponentLink4URL: https://datasheet.ciiva.com/1038/l0075s0083lqg15hs-1038153.pdf?src-supplier=Digikey; ComponentLink4Description: https://datasheet.ciiva.com/1038/l0075s0083lqg15hs-1038153.pdf?src-supplier=Digikey; ComponentLink5URL: https://datasheet.ciiva.com/8510/l0075s0083lqg15hs-8510853.pdf?src-supplier=Avnet; ComponentLink5Description: https://datasheet.ciiva.com/8510/l0075s0083lqg15hs-8510853.pdf?src-supplier=Avnet
footprint L0402
pins: 1, 2

## MUSB-05-F-AB-SM-A-K
designator CN?
"Mini USB 2.0 Interface"; Manufacturer: Samtec; Supplier: Digikey; Supplier Part Number: 612-MUSB-05-F-AB-SM-A-K-ND; Manufacturer Part Number: MUSB-05-F-AB-SM-A-K; RoHS: No; Category: Connectors; Pricing: 1=1,56 (USD); RoHS Compliant: No; ComponentLink1URL: https://datasheet.octopart.com/MUSB-05-F-AB-SM-A-K-Samtec-datasheet-151555050.pdf?src-supplier=Sager+Electronics; ComponentLink1Description: https://datasheet.octopart.com/MUSB-05-F-AB-SM-A-K-Samtec-datasheet-151555050.pdf?src-supplier=Sager+Electronics; ComponentLink2URL: https://datasheet.octopart.com/MUSB-05-F-AB-SM-A-K-Samtec-datasheet-97180724.pdf?src-supplier=Samtec; ComponentLink2Description: https://datasheet.octopart.com/MUSB-05-F-AB-SM-A-K-Samtec-datasheet-97180724.pdf?src-supplier=Samtec; ComponentLink3URL: https://datasheet.octopart.com/MUSB-05-F-AB-SM-A-K-Samtec-datasheet-129014306.pdf?src-supplier=Electro+Sonic; ComponentLink3Description: https://datasheet.octopart.com/MUSB-05-F-AB-SM-A-K-Samtec-datasheet-129014306.pdf?src-supplier=Electro+Sonic
footprint USB
pins: 1, 2, 3, 4, 5, 6, 7, 8, 9, 10, 11
text: 5V; D-; D+; ID; GND

## NX2012SA-32.768K-STD-MUB-1
designator X?
Parallel - Fundamental Quartz Crystal, 0.032768MHz Nom; Manufacturer: NDK; Frequency: 32.768kHz; Load Capacitance: 12.5pF; ESR (Equivalent Series Resistance): 80kR; Frequency Tolerance: 20ppm; Tolerance: 0.002%; Supplier: Mouser; Supplier Part Number: 344-NX2012SA32768K1; Manufacturer Part Number: NX2012SA-32.768K-STD-MUB-1; RoHS: Yes; Category: Crystals; Stock: 8641; Pricing: 1=0,84, 10=0,659, 50=0,659, 100=0,6, 1000=0,5, 10000=0,414 (USD); Mounting Technology: Surface Mount; Case/Package: SMD/SMT; Min Operating Temperature: -40°C; Max Operating Temperature: 85°C; Packaging: Cut Tape; Series: NX2012SA; Length: 0.081inch; Width: 0.047inch; Height: 0.024inch; RoHS Compliant: Yes; ComponentLink1URL: http://www.ndk.com/images/products/catalog/c_NX2012SA-STD-MUB-1_e.pdf?src-supplier=Digikey; ComponentLink1Description: http://www.ndk.com/images/products/catalog/c_NX2012SA-STD-MUB-1_e.pdf?src-supplier=Digikey
footprint NX2012SA
pins: 1, 2

## NX2016SA-32M-EXS00A-CS06465
designator X?
Crystal 32.0000MHZ 10PF SMD; Manufacturer: NDK; Frequency: 32MHz; ESR (Equivalent Series Resistance): 60R; Supplier: Mouser; Supplier Part Number: 344-NX2016SA32S06465; Manufacturer Part Number: NX2016SA-32M-EXS00A-CS06465; RoHS: No; Category: Crystals; Stock: 30578; Pricing: 1=0,56, 10=0,438, 50=0,438, 100=0,411, 1000=0,349, 10000=0,283 (USD); Mounting Technology: Surface Mount; Case/Package: SMD/SMT; Packaging: Cut Tape; Load Capacitance: 10pF; Series: NX2016SA; ComponentLink1URL: https://media.digikey.com/pdf/Data%20Sheets/NDK%20PDFs/NX2016SA-32M-EXS00A-CS06465_SS.pdf?src-supplier=Digikey; ComponentLink1Description: https://media.digikey.com/pdf/Data%20Sheets/NDK%20PDFs/NX2016SA-32M-EXS00A-CS06465_SS.pdf?src-supplier=Digikey
footprint XTAL32MHZ
pins: 1, 2, 3, 4

## RC0402FR-071KL
designator R?  value 1k  (hidden comment: RC0402FR-071KL)
SMD Chip Resistor 1 Kohm ½ 1% 62.5 Mw 0402 [1005 Metric] Thick Film General Purpose; Manufacturer: Yageo; Voltage Rating (DC): 50V; Temperature Coefficient: 100ppm/°C; Power Rating: 62.5mW; Max Power Dissipation: 63mW; Supplier: Avnet; Supplier Part Number: RC0402FR-071KL; Manufacturer Part Number: RC0402FR-071KL; RoHS: Yes; Category: Chip SMD Resistors; Stock: 9660000; Pricing: 10000=0,00097, 20000=0,00093, 40000=0,0009, 60000=0,00087, 80000=0,00084 (USD); Case/Package: 0402; Pins: 2; Case Code (Imperial): 0402; Case Code (Metric): 1005; Min Operating Temperature: -55°C; Max Operating Temperature: 155°C; Tolerance: 1%; Packaging: Tape and Reel; Voltage Rating: 50V; Termination: SMD/SMT; Voltage Rating (AC): 50V; Resistor Type: Thick Film; Features: Moisture Resistant; Series: RC; Number of Terminations: 2; Resistance Tolerance: 1%; Construction: Rectangular; Technology: THICK FILM; Length: 1mm; Width: 0.5mm; Height: 0.32mm; Depth: 0.5mm; Reach SVHC Compliant: No; Lead Free: Lead Free; Military Standard: Not; RoHS Compliant: Yes; ComponentLink1URL: https://datasheet.ciiva.com/11819/0900766b80c66297-11819477.pdf?src-supplier=Rs; ComponentLink1Description: https://datasheet.ciiva.com/11819/0900766b80c66297-11819477.pdf?src-supplier=Rs; ComponentLink2URL: https://datasheet.ciiva.com/7983/1018594-7983502.pdf?src-supplier=Element14; ComponentLink2Description: https://datasheet.ciiva.com/7983/1018594-7983502.pdf?src-supplier=Element14; ComponentLink3URL: https://datasheet.ciiva.com/22747/1018594-22747513.pdf?src-supplier=Element14; ComponentLink3Description: https://datasheet.ciiva.com/22747/1018594-22747513.pdf?src-supplier=Element14; ComponentLink4URL: https://datasheet.ciiva.com/17063/pyu-rc0402-51-rohs-l-6-r-17063193.pdf?src-supplier=Future+Electronics; ComponentLink4Description: https://datasheet.ciiva.com/17063/pyu-rc0402-51-rohs-l-6-r-17063193.pdf?src-supplier=Future+Electronics; ComponentLink5URL: https://datasheet.ciiva.com/7849/1018594-7849869.pdf?src-supplier=Element14; ComponentLink5Description: https://datasheet.ciiva.com/7849/1018594-7849869.pdf?src-supplier=Element14; ComponentLink6URL: https://datasheet.ciiva.com/7849/1018594-7849871.pdf?src-supplier=Element14; ComponentLink6Description: https://datasheet.ciiva.com/7849/1018594-7849871.pdf?src-supplier=Element14; ComponentLink7URL: https://datasheet.ciiva.com/12666/pyu-rc0402-51-rohs-l-6-r-12666741.pdf?src-supplier=Mouser; ComponentLink7Description: https://datasheet.ciiva.com/12666/pyu-rc0402-51-rohs-l-6-r-12666741.pdf?src-supplier=Mouser
footprint R0402
pins: 1, 2

## RC0402FR-0722K1L
designator R?  value 22K1  (hidden comment: RC0402FR-0722K1L)
RES - 22K1 1/16W 0402 ±1%; Manufacturer 1: Yageo; Power Rating: 62.5mW; Voltage Rating: 50V; Max Power Dissipation: 63mW; Temperature Coefficient: 100ppm/°C; .PCBChecked: Alex Batista; .Mouting: SMT; Supplier: Digi-Key; Supplier Part Number: 311-22.1KLRCT-ND; Manufacturer Part Number 1: RC0402FR-0722K1L; RoHS: Yes; Category: Chip SMD Resistors; Stock: 435944; Pricing: 1=0.1, 10=0.014, 50=0.0084, 100=0.007, 500=0.00464, 1000=0.00396, 5000=0.00282 (USD); Case/Package: 0402; Case Code (Metric): 1005; Case Code (Imperial): 0402; Min Operating Temperature: -55°C; Max Operating Temperature: 155°C; Package Quantity: 1; Tolerance: 1%; Packaging: Tape and Reel; Resistor Type: Thick Film; Number of Terminations: 2; Termination: SMD/SMT; Voltage Rating (DC): 50V; Working Voltage: 50V; Features: Moisture Resistant; Series: RC; Technology: THICK FILM; Resistance Tolerance: 1%; Construction: Rectangular; Length: 0.039inch; Width: 0.02inch; Height: 0.016inch; Depth: 0.5mm; Reach SVHC Compliant: No; Military Standard: Not; Lead Free: Lead Free; RoHS Compliant: Yes; ComponentLink1URL: https://datasheet.ciiva.com/2553/pyu-r-int-thick-7-2553200.pdf?src-supplier=Digi-Key; ComponentLink1Description: https://datasheet.ciiva.com/2553/pyu-r-int-thick-7-2553200.pdf?src-supplier=Digi-Key; ComponentLink2URL: https://datasheet.ciiva.com/2553/pyu-r-int-thick-7-2553201.pdf?src-supplier=Digi-Key; ComponentLink2Description: https://datasheet.ciiva.com/2553/pyu-r-int-thick-7-2553201.pdf?src-supplier=Digi-Key; ComponentLink3URL: https://datasheet.ciiva.com/2553/pyu-r-int-thick-7-2553202.pdf?src-supplier=Digi-Key; ComponentLink3Description: https://datasheet.ciiva.com/2553/pyu-r-int-thick-7-2553202.pdf?src-supplier=Digi-Key; .SCHChecked: Alex Batista; Manufacturer: Yageo; Manufacturer Part Number: RC0402FR-0722K1L
footprint R0402
pins: 1, 2

## RC0402FR-07118KL
designator R?  value 118K  (hidden comment: RC0402FR-07118KL)
RES - 118K 1/16W 0402 ±1%; Manufacturer 1: Yageo; Power Rating: 62.5mW; Voltage Rating: 50V; Temperature Coefficient: 100ppm/°C; Max Power Dissipation: 63mW; .SCHChecked: Alex Batista; .Mouting: SMT; Supplier: Digi-Key; Supplier Part Number: YAG2369CT-ND; Manufacturer Part Number 1: RC0402FR-07118KL; RoHS: Yes; Category: Chip SMD Resistors; Stock: 556112; Pricing: 1=0.1, 10=0.014, 50=0.0084, 100=0.007, 500=0.00464, 1000=0.00396, 5000=0.00282 (USD); Case/Package: 0402; Case Code (Metric): 1005; Case Code (Imperial): 0402; Contact Plating: Tin,Matte; Min Operating Temperature: -55°C; Max Operating Temperature: 155°C; Tolerance: 1%; Packaging: Tape and Reel; Package Quantity: 10000; Number of Terminations: 2; Termination: SMD/SMT; Voltage Rating (DC): 50V; Features: Moisture Resistant; Series: RC; Construction: Rectangular; Length: 1mm; Width: 0.5mm; Height: 0.016inch; Depth: 0.5mm; Military Standard: Not; Lead Free: Lead Free; RoHS Compliant: Yes; ComponentLink1URL: https://datasheet.ciiva.com/8887/pyu-rc0402-51-rohs-l-6-8887658.pdf?src-supplier=Avnet; ComponentLink1Description: https://datasheet.ciiva.com/8887/pyu-rc0402-51-rohs-l-6-8887658.pdf?src-supplier=Avnet; ComponentLink2URL: https://datasheet.ciiva.com/12558/pyu-rc0402-51-rohs-l-6-r-8721-12558524.pdf?src-supplier=Mouser; ComponentLink2Description: https://datasheet.ciiva.com/12558/pyu-rc0402-51-rohs-l-6-r-8721-12558524.pdf?src-supplier=Mouser; ComponentLink3URL: https://datasheet.ciiva.com/2552/pyu-r-int-thick-7-2552967.pdf?src-supplier=Digi-Key; ComponentLink3Description: https://datasheet.ciiva.com/2552/pyu-r-int-thick-7-2552967.pdf?src-supplier=Digi-Key; ComponentLink4URL: https://datasheet.ciiva.com/26829/getdatasheetpartid-702380-26829882.pdf?src-supplier=Verical; ComponentLink4Description: https://datasheet.ciiva.com/26829/getdatasheetpartid-702380-26829882.pdf?src-supplier=Verical; .PCBChecked: Alex Batista; Manufacturer: Yageo; Manufacturer Part Number: RC0402FR-07118KL
footprint R0402
pins: 1, 2

## RC0402JR-070RL
designator R?  value 0R
GENERAL PURPOSE CHIP RESISTOR Metal Glaze/thick Film, 0.0625W, 0ohm, Surface Mount, 0402; Manufacturer: Yageo; Power Rating: 62.5mW; Tolerance: 5%; Voltage Rating: 50V; Max Power Dissipation: 63mW; Temperature Coefficient: 200ppm/°C; Supplier: Future Electronics; Supplier Part Number: 3375797; Manufacturer Part Number: RC0402JR-070RL; RoHS: Yes; Category: Chip SMD Resistors; Stock: 45190000; Pricing: 10000=0,0007, 50000=0,0007, 200000=0,0007, 500000=0,0006, 1250000=0,0006 (USD); Case/Package: 0402; Contact Plating: Tin,Matte; Case Code (Metric): 1005; Case Code (Imperial): 0402; Min Operating Temperature: -55°C; Max Operating Temperature: 155°C; Package Quantity: 1; Packaging: Tape and Reel; Resistor Type: Thick Film; Number of Terminations: 2; Termination: SMD/SMT; Features: Moisture Resistant; Series: RC; Technology: THICK FILM; Resistance Tolerance: 5%; Construction: Rectangular; Length: 1mm; Width: 0.02inch; Height: 0.016inch; Depth: 0.5mm; Lead Free: Lead Free; Reach SVHC Compliant: Unknown; Military Standard: Not; RoHS Compliant: Yes; ComponentLink1URL: https://datasheet.ciiva.com/2452/pyu-rc0402-51-rohs-l-6-2452608.pdf?src-supplier=Digikey; ComponentLink1Description: https://datasheet.ciiva.com/2452/pyu-rc0402-51-rohs-l-6-2452608.pdf?src-supplier=Digikey; ComponentLink2URL: https://datasheet.ciiva.com/11808/0900766b80c66297-11808195.pdf?src-supplier=Rs; ComponentLink2Description: https://datasheet.ciiva.com/11808/0900766b80c66297-11808195.pdf?src-supplier=Rs; ComponentLink3URL: https://datasheet.ciiva.com/2452/pyu-r-int-thick-7-2452609.pdf?src-supplier=Digikey; ComponentLink3Description: https://datasheet.ciiva.com/2452/pyu-r-int-thick-7-2452609.pdf?src-supplier=Digikey; ComponentLink4URL: https://datasheet.ciiva.com/2452/pyu-r-int-thick-7-2452610.pdf?src-supplier=Digikey; ComponentLink4Description: https://datasheet.ciiva.com/2452/pyu-r-int-thick-7-2452610.pdf?src-supplier=Digikey; ComponentLink5URL: https://datasheet.ciiva.com/8896/pyu-rc0402-51-rohs-l-6-8896201.pdf?src-supplier=Avnet; ComponentLink5Description: https://datasheet.ciiva.com/8896/pyu-rc0402-51-rohs-l-6-8896201.pdf?src-supplier=Avnet; ComponentLink6URL: https://datasheet.ciiva.com/15189/getdatasheetpartid-326379-15189533.pdf?src-supplier=Verical; ComponentLink6Description: https://datasheet.ciiva.com/15189/getdatasheetpartid-326379-15189533.pdf?src-supplier=Verical; ComponentLink7URL: https://datasheet.ciiva.com/7983/1018594-7983535.pdf?src-supplier=Element14; ComponentLink7Description: https://datasheet.ciiva.com/7983/1018594-7983535.pdf?src-supplier=Element14; ComponentLink8URL: https://datasheet.ciiva.com/22747/1018594-22747515.pdf?src-supplier=Element14; ComponentLink8Description: https://datasheet.ciiva.com/22747/1018594-22747515.pdf?src-supplier=Element14
footprint R0402
pins: 1, 2